# EAGLE library part ESP8266-13 (library esp8266-13-obst)
ESP8266-13 Created by m-szkola.pl Piotr Obst, Poland
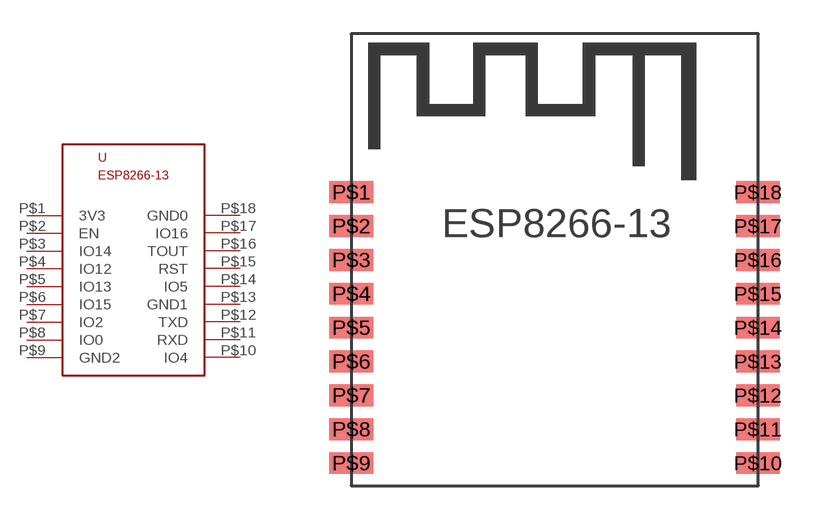
[diagram p0: symbol with the pads of ESP8266-13; footprint ESP8266-13]

Designator prefix -

## ESP8266-13  [ESP8266-13]
P$1  3V3
P$2  EN
P$3  IO14
P$4  IO12
P$5  IO13
P$6  IO15
P$7  IO2
P$8  IO0
P$9  GND2
P$10  IO4
P$11  RXD
P$12  TXD
P$13  GND1
P$14  IO5
P$15  RST
P$16  TOUT
P$17  IO16
P$18  GND0

## Footprint ESP8266-13 (pad centres in mm)
ESP8266-13 Created by m-szkola.pl Piotr Obst, Poland
smd 1.93 x 0.965: P$1 -8.89,5.38; P$2 -8.89,3.88; P$3 -8.89,2.38; P$4 -8.89,0.88; P$5 -8.89,-0.62; P$6 -8.89,-2.12; P$7 -8.89,-3.62; P$8 -8.89,-5.12; P$9 -8.89,-6.62; P$10 9.11,-6.62; P$11 9.11,-5.12; P$12 9.11,-3.62; P$13 9.11,-2.12; P$14 9.11,-0.62; P$15 9.11,0.88; P$16 9.11,2.38; P$17 9.11,3.88; P$18 9.11,5.38